# Altium schematic symbol library SparkFun-Resistors.SCHLIB: 4 symbols
Pins are listed as number, name and electrical type; pins without a type are passive.

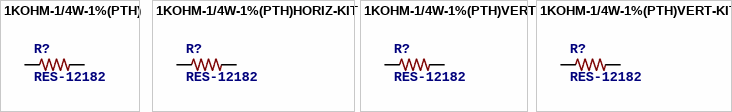
[diagram p0: symbols 1KOHM-1/4W-1%(PTH) to 1KOHM-1/4W-1%(PTH)VERT-KIT]

## 1KOHM-1/4W-1%(PTH)
designator R?, comment RES-12182
PROD_ID: RES-12182
footprint AXIAL-0.3
pins: P$1 1, P$2 2

## 1KOHM-1/4W-1%(PTH)HORIZ-KIT
designator R?, comment RES-12182
PROD_ID: RES-12182
footprint AXIAL-0.3EZ
pins: P$1 1, P$2 2

## 1KOHM-1/4W-1%(PTH)VERT
designator R?, comment RES-12182
PROD_ID: RES-12182
footprint AXIAL-0.1
pins: P$1 1, P$2 2

## 1KOHM-1/4W-1%(PTH)VERT-KIT
designator R?, comment RES-12182
PROD_ID: RES-12182
footprint AXIAL-0.1EZ
pins: P$1 1, P$2 2